# Altium schematic symbol library Switches.SchLib: 8 symbols
Pins are listed as number, name and electrical type; pins without a type are passive.

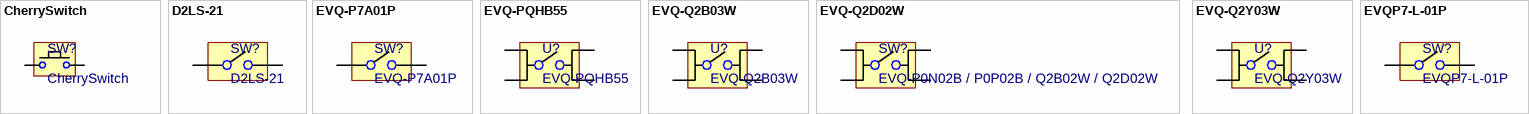
[diagram p0: symbols CherrySwitch to EVQP7-L-01P]

## CherrySwitch
designator SW?
Generic land for switches that are compatible with Cherry MX switches.
footprint CherrySwitch
pins: A, B

## D2LS-21
designator SW?
Compact Surface-mounting Switch for long durability; Supplier 1: Digi-Key; Supplier 2: Mouser; Supplier Part Number 1: Z4378CT-ND; Supplier Part Number 2: 653-D2LS-21
footprint D2LS-21
pins: A, B

## EVQ-P7A01P
designator SW?
Tactile Switches 3.5x2.9mm Right Ang Light Touch Switch; Supplier 1: Digi-Key; Supplier 2: Mouser; Supplier 3: Arrow; Supplier Part Number 1: P16763CT-ND; Supplier Part Number 2: 667-EVQP7A01P; Supplier Part Number 3: EVQ-P7A01P
footprint EVQ-PQHB55
pins: A, B

## EVQ-PQHB55
designator U?
Tactile Switch; Supplier 1: Digi-Key; Supplier Part Number 1: P8090SCT-ND; Supplier 2: Arrow; Supplier Part Number 2: Cq_JCPF7sVoEzU-FUh_XkitJJs92fI9TdizfQuQyw6Q
footprint EVQ-PQHB55
pins: 1 A, 2 B, 3 C, 4 D

## EVQ-Q2B03W
designator U?
Tactile Switch SPST-NO Top Actuated Surface Mount; Supplier 1: Digi-Key; Supplier 2: Mouser; Supplier Part Number 2: 667-EVQ-Q2B03W; Supplier Part Number 1: P12932SCT-ND
footprint EVQ-Q2Y03W
pins: A, A, B, B

## EVQ-Q2D02W
designator SW?, comment EVQ-P0N02B / P0P02B / Q2B02W / Q2D02W
Tactile Switch SPST-NO Top Actuated Surface Mount
footprint EVQ-Q2D02W Switch (Alternately: EVQP0N02B, EVQP0P02B, EVQQ2B02W)
pins: A, A, B, B

## EVQ-Q2Y03W
designator U?
Tactile Switch SPST-NO Top Actuated Surface Mount; Supplier 1: Digi-Key; Supplier Part Number 1: P8090SCT-ND; Supplier 2: Arrow; Supplier Part Number 2: Cq_JCPF7sVoEzU-FUh_XkitJJs92fI9TdizfQuQyw6Q
footprint EVQ-Q2Y03W
pins: A, A, B, B

## EVQP7-L-01P
designator SW?
Tactile Switches 3.5x2.9mm Right Ang Light Touch Switch
footprint EVQP7-L-01P
pins: 1, 2